# Altium schematic symbol library B0505S-W2R2.SchLib: 1 symbol
Pins are listed as number, name and electrical type; pins without a type are passive.

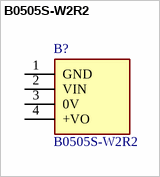
[diagram p0: symbol B0505S-W2R2]

## B0505S-W2R2
designator B?
DC/DC Converter; Manufacturer_Name: Mornsun Power; Geometry.Height: 10.41mm; Manufacturer_Part_Number: B0505S-W2R2; Mouser Part Number: *; Mouser Price/Stock: *; Arrow Part Number: *; Arrow Price/Stock: *; Datasheet Link: https://pdf1.alldatasheet.com/datasheet-pdf/view/1102443/MORNSUN/B0505S-W2R2.html
footprint B0505SW2R2
pins: 1 GND, 2 VIN, 3 0V, 4 +VO